# EAGLE library part FT2232H (library ICs)
FT2232H Dual High Speed USB to Multipurpose UART/FIFO IC
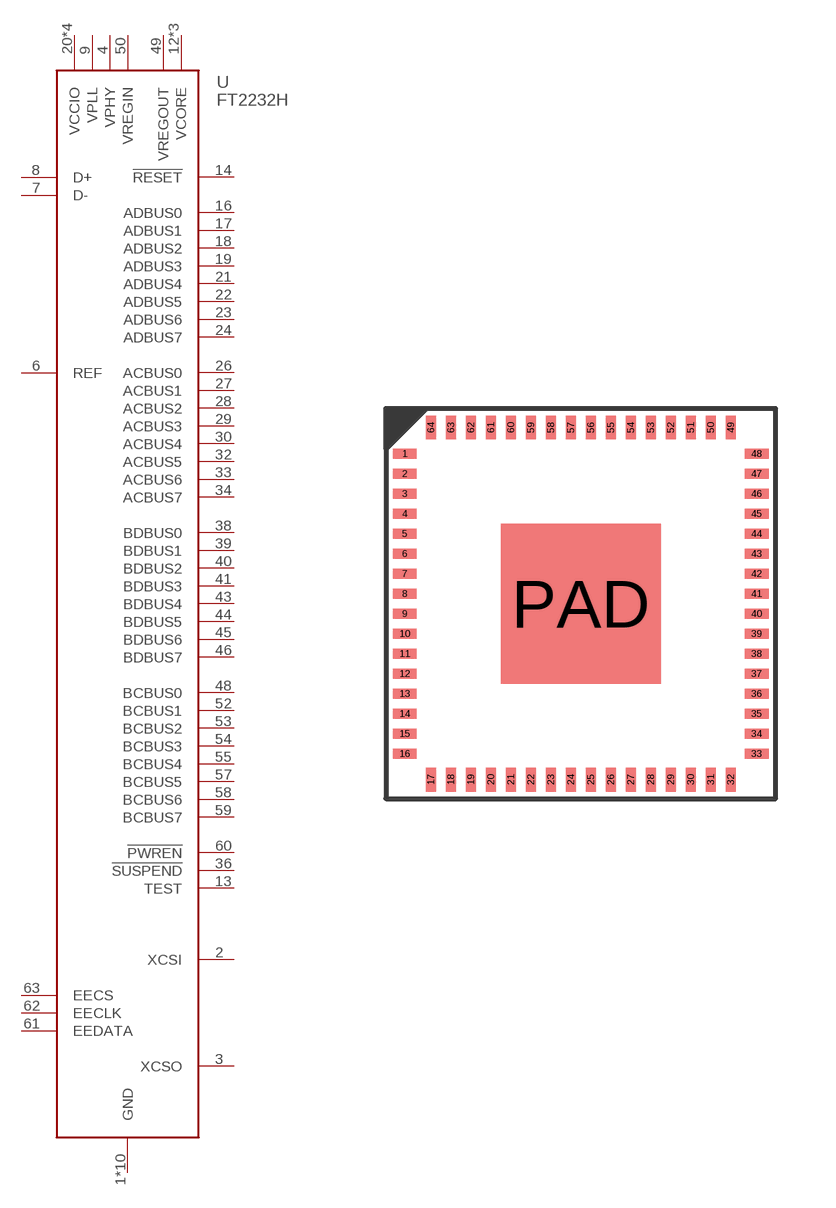
[diagram p333: symbol with the pads of QFN64; footprint QFN64]

Designator prefix U

## FT2232H (DIGIKEY: 768-1025-1-ND; HEIGHT: 2; PRICE_PER: 4.29; VALUE: FT2232H)  [QFN64]
1  GND
2  XCSI
3  XCSO
4  VPHY
5  GND
6  REF
7  D-
8  D+
9  VPLL
10  GND
11  GND
12  VCORE
13  TEST
14  !RESET
15  GND
16  ADBUS0
17  ADBUS1
18  ADBUS2
19  ADBUS3
20  VCCIO
21  ADBUS4
22  ADBUS5
23  ADBUS6
24  ADBUS7
25  GND
26  ACBUS0
27  ACBUS1
28  ACBUS2
29  ACBUS3
30  ACBUS4
31  VCCIO
32  ACBUS5
33  ACBUS6
34  ACBUS7
35  GND
36  !SUSPEND
37  VCORE
38  BDBUS0
39  BDBUS1
40  BDBUS2
41  BDBUS3
42  VCCIO
43  BDBUS4
44  BDBUS5
45  BDBUS6
46  BDBUS7
47  GND
48  BCBUS0
49  VREGOUT
50  VREGIN
51  GND
52  BCBUS1
53  BCBUS2
54  BCBUS3
55  BCBUS4
56  VCCIO
57  BCBUS5
58  BCBUS6
59  BCBUS7
60  !PWREN
61  EEDATA
62  EECLK
63  EECS
64  VCORE
PAD  GND

## Footprint QFN64 (pad centres in mm)
smd 0.6 x 0.25: 1 -4.4,3.75; 2 -4.4,3.25; 3 -4.4,2.75; 4 -4.4,2.25; 5 -4.4,1.75; 6 -4.4,1.25; 7 -4.4,0.75; 8 -4.4,0.25; 9 -4.4,-0.25; 10 -4.4,-0.75; 11 -4.4,-1.25; 12 -4.4,-1.75; 13 -4.4,-2.25; 14 -4.4,-2.75; 15 -4.4,-3.25; 16 -4.4,-3.75; 33 4.4,-3.75; 34 4.4,-3.25; 35 4.4,-2.75; 36 4.4,-2.25; 37 4.4,-1.75; 38 4.4,-1.25; 39 4.4,-0.75; 40 4.4,-0.25; 41 4.4,0.25; 42 4.4,0.75; 43 4.4,1.25; 44 4.4,1.75; 45 4.4,2.25; 46 4.4,2.75; 47 4.4,3.25; 48 4.4,3.75
smd 0.25 x 0.6: 17 -3.75,-4.4; 18 -3.25,-4.4; 19 -2.75,-4.4; 20 -2.25,-4.4; 21 -1.75,-4.4; 22 -1.25,-4.4; 23 -0.75,-4.4; 24 -0.25,-4.4; 25 0.25,-4.4; 26 0.75,-4.4; 27 1.25,-4.4; 28 1.75,-4.4; 29 2.25,-4.4; 30 2.75,-4.4; 31 3.25,-4.4; 32 3.75,-4.4; 49 3.75,4.4; 50 3.25,4.4; 51 2.75,4.4; 52 2.25,4.4; 53 1.75,4.4; 54 1.25,4.4; 55 0.75,4.4; 56 0.25,4.4; 57 -0.25,4.4; 58 -0.75,4.4; 59 -1.25,4.4; 60 -1.75,4.4; 61 -2.25,4.4; 62 -2.75,4.4; 63 -3.25,4.4; 64 -3.75,4.4
smd 4 x 4: PAD 0,0